# Altium schematic symbol library MOC30x3.SchLib: 1 symbol
Pins are listed as number, name and electrical type; pins without a type are passive.

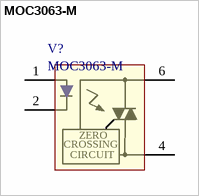
[diagram p0: symbol MOC3063-M]

## MOC3063-M
designator V?
Оптопара  ZERO-CROSS (600V PEAK) 6-PIN DIP; Разработал: Сергеев; Data: 18-Mar-2010
footprint DIP-6 (DIP; 6 Leads; Row Spacing 7.62 mm; Pitch 2.54 mm)
pins: 1 A "Anode", 2 K "Cathode", 4 MAIN TERM. (power), 6 MAIN TERM.
text: ZERO; CROSSING; CIRCUIT